# Altium schematic symbol library USB_C.SchLib: 1 symbol
Pins are listed as number, name and electrical type; pins without a type are passive.

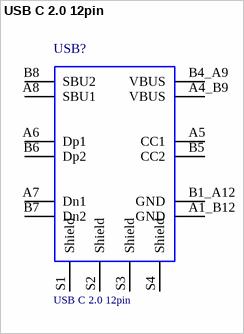
[diagram p0: symbol USB C 2.0 12pin]

## USB C 2.0 12pin
designator USB?
USB 2.0 Type C Receptacle WR-COM, Horizontal, SMT / THT; Part Number: 632723100011; Manufacturer: Wurth Elektronik; Working Voltage: 20VDC; Rated Current: 5A; Connector Type: USB3.1TypeC; Contact Resistance: 30mOhm; Operating Temperature: -40to105degC; Publisher: WurthElektronik; Gender: Receptacle; Mounting Technology: SMT/THT; Datasheet URL: https://katalog.we-online.de/em/datasheet/632723x00011%282%29.pdf; Manufacturer URL: http://www.we-online.de; Orientation: Horizontal; Package Reference: 632723100011; Packaging: TapeandReel
footprint USB_C_12pin
pins: A1_B12 GND, A4_B9 VBUS, A5 CC1, A6 Dp1, A7 Dn1, A8 SBU1, B1_A12 GND (power), B4_A9 VBUS, B5 CC2, B6 Dp2, B7 Dn2, B8 SBU2, S1 Shield, S2 Shield, S3 Shield, S4 Shield